# Altium schematic symbol library 1206Y2K00102KXT.SchLib: 1 symbol
Pins are listed as number, name and electrical type; pins without a type are passive.

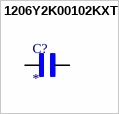
[diagram p0: symbol 1206Y2K00102KXT]

## 1206Y2K00102KXT
designator C?
1000 pF Â±10% 2000V (2kV) Ceramic Capacitor X7R 1206 (3216 Metric); MF: Knowles Syfer; MP: 1206Y2K00102KXT; SnapEDA_Link: https://www.snapeda.com/parts/1206Y2K00102KXT/Knowles+Syfer/view-part/?ref=snap; Package: 3216 Knowles Syfer; Value: *; Check_prices: https://www.snapeda.com/parts/1206Y2K00102KXT/Knowles+Syfer/view-part/?ref=eda
footprint CAPC3216X160N
pins: 1, 2